# EAGLE library part LSM9DS1_IMU (library quadparts)
iNEMO IMU
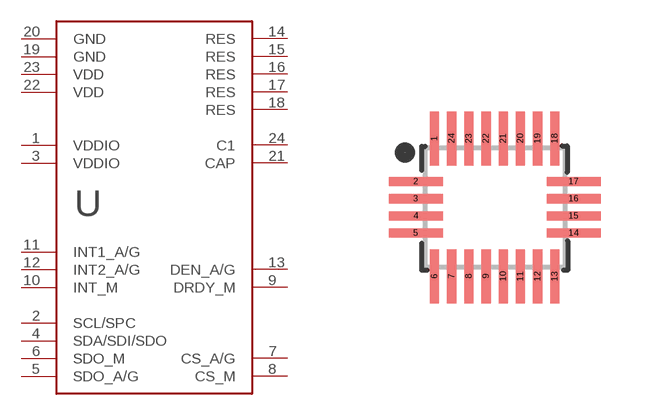
[diagram p0: symbol with the pads of LSM9DS1_LGA24L; footprint LSM9DS1_LGA24L]

Designator prefix U

## LSM9DS1_IMU (CREATOR: BRIAN; DIST: Digikey; DISTPN: 497-14946-1-ND; MFR: STMicroelectronics; MPN: LSM9DS1TR)  [LSM9DS1_LGA24L]
1  VDDIO  pwr
2  SCL/SPC
3  VDDIO  pwr
4  SDA/SDI/SDO
5  SDO_A/G
6  SDO_M
7  CS_A/G
8  CS_M
9  DRDY_M
10  INT_M
11  INT1_A/G
12  INT2_A/G
13  DEN_A/G
14  RES  nc
15  RES  nc
16  RES  nc
17  RES  nc
18  RES  nc
19  GND  pwr
20  GND  pwr
21  CAP  pas
22  VDD  pwr
23  VDD  pwr
24  C1  pas

## Footprint LSM9DS1_LGA24L (pad centres in mm)
SMD IMU, Chip; 3.50 mm L X 3.00 mm W X 1.00 mm H body; LGA24L Package
smd 0.23 x 1.35: 1 -1.505,1.725; 6 -1.505,-1.725; 7 -1.075,-1.725; 8 -0.645,-1.725; 9 -0.215,-1.725; 10 0.215,-1.725; 11 0.645,-1.725; 12 1.075,-1.725; 13 1.505,-1.725; 18 1.505,1.725; 19 1.075,1.725; 20 0.645,1.725; 21 0.215,1.725; 22 -0.215,1.725; 23 -0.645,1.725; 24 -1.075,1.725
smd 1.35 x 0.23: 2 -1.975,0.645; 3 -1.975,0.215; 4 -1.975,-0.215; 5 -1.975,-0.645; 14 1.975,-0.645; 15 1.975,-0.215; 16 1.975,0.215; 17 1.975,0.645